# Altium integrated library Linear Technology Comparators.IntLib: 630 symbols (part 8 of 24)
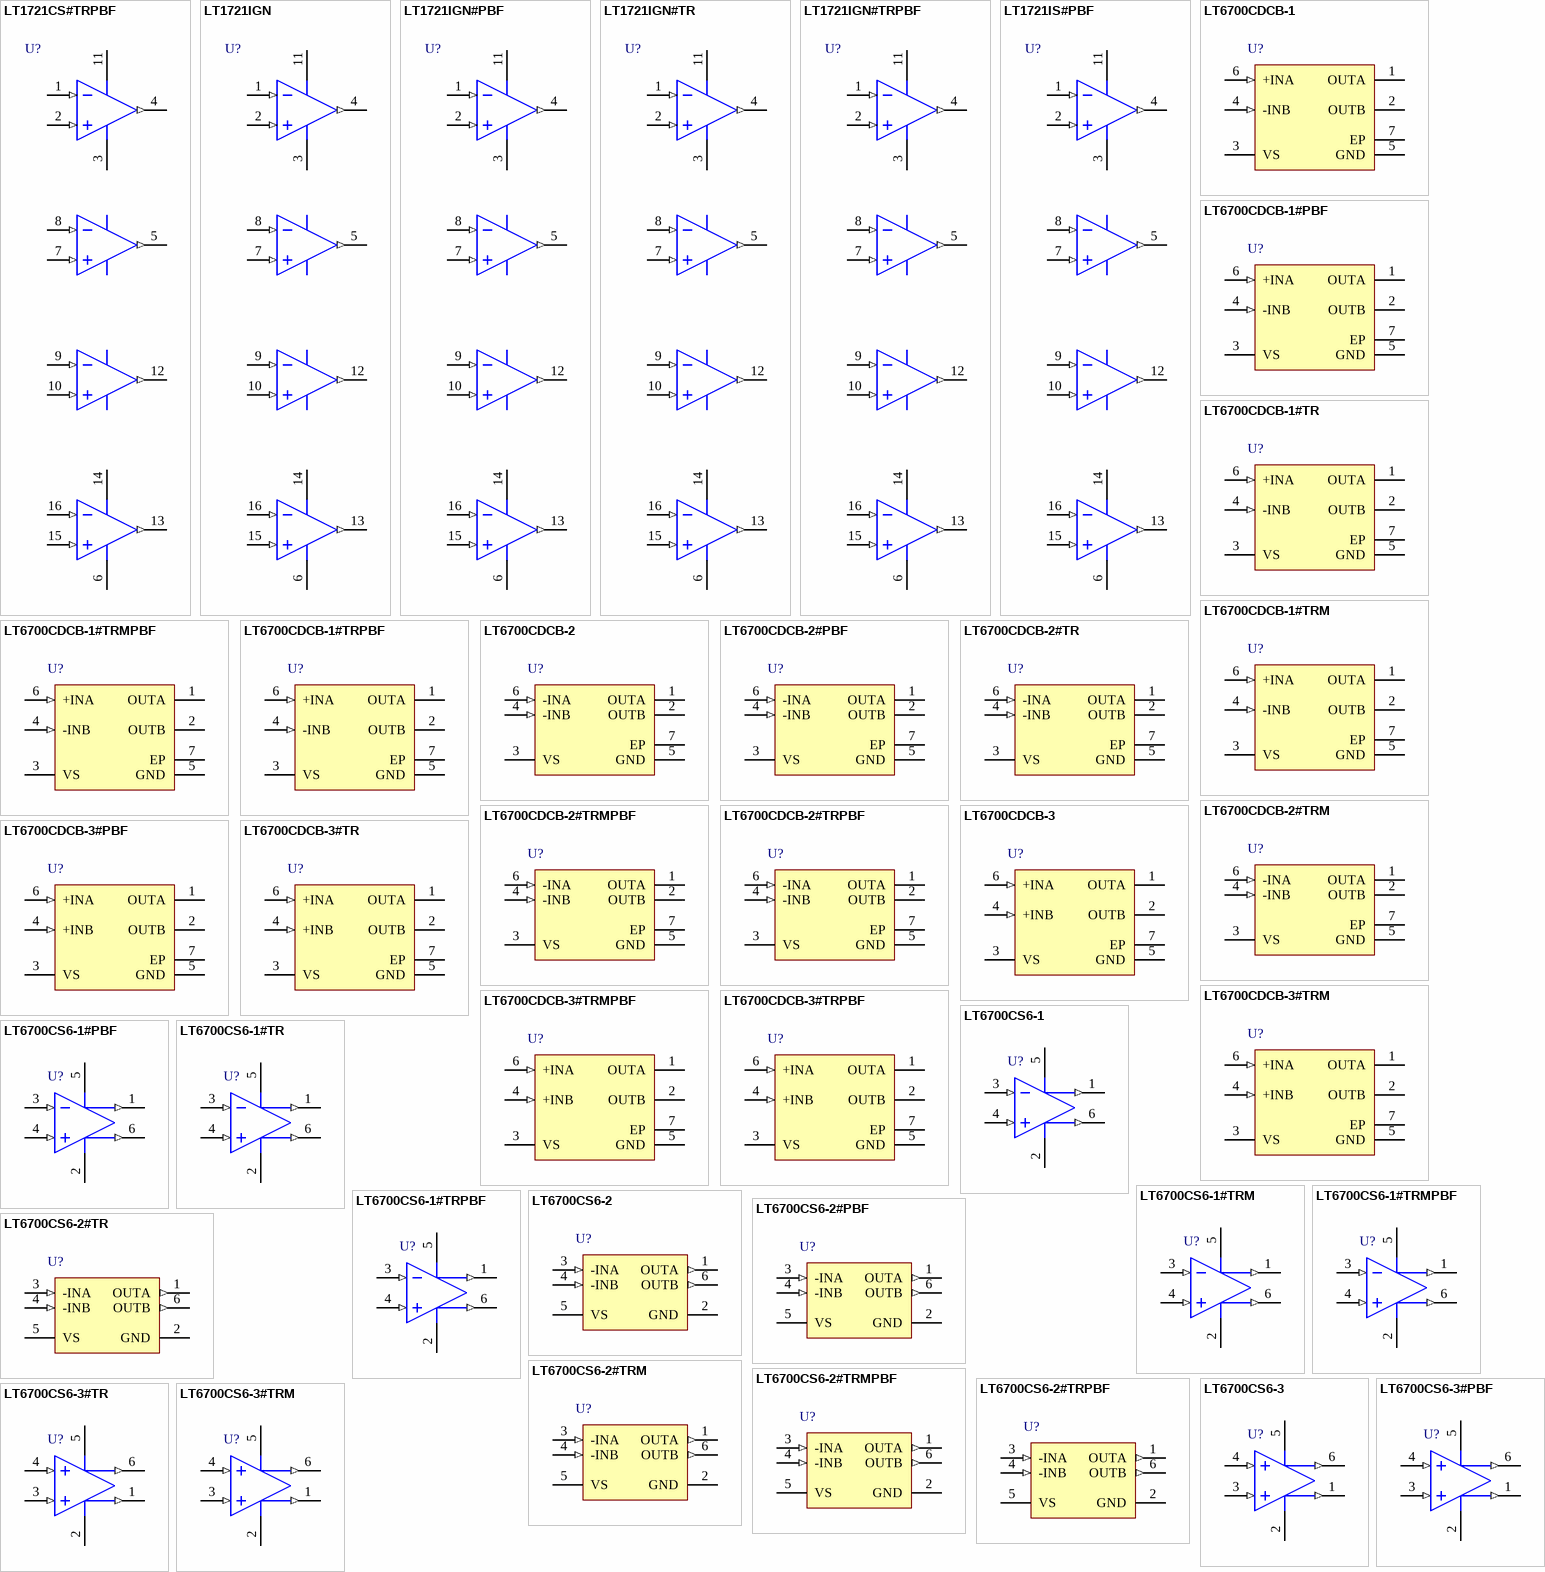
[diagram p31: symbols LT1721CS#TRPBF to LT6700CS6-3#TRM]

## LT6700CDCB-2#TRPBF
designator U?
Micropower, Low Voltage, Comparator with 400 mV Reference, 2 Channels, 1.4 to 18 V, 0 to +70 degC, 6-pin Plastic DFN (DCB6), Tape and Reel; Generic Part Number: LT6700-2; Manufacturer: Linear Technology; PartNumber: LT6700CDCB-2#TRPBF; Channels (#): 2; Prop Delay (us): 18; Supply Current (uA) Guaranteed: 10; Supply Current (uA) Typical: 5.7; Vos (mV) Typical: 6; Vs Min (V): 1.4; DatasheetVersion: Rev G; PackageReference: DCB6; PackageDescription: 6-Pin Plastic DFN, Body 2 × 3 mm, Pitch 1.35 mm; Supplier 1: Digi-Key; Supplier Part Number 1: LT6700CDCB-2#TRPBF-ND; Features: Comparator, Reference, Over-the-Top Inputs; RoHS: Y; Supply Voltage Range: 1.4 to 18 V; Vs Max (V): 18; Mounting Technology: Surface Mount; Code_JEDEC: M0-229; ComponentLink1Description: Manufacturer URL; ComponentLink1URL: http://www.linear.com/; ComponentLink2Description: Datasheet; ComponentLink2URL: http://cds.linear.com/docs/en/datasheet/6700123fg.pdf; ComponentLink3Description: Package Specification; ComponentLink3URL: http://cds.linear.com/docs/en/packaging/(DCB6)%20DFN%2005-08-1715%20Rev%20A.pdf
footprint LT-DCB6_V (SON, 6-Leads, Body 2x3mm, Pitch 0.5mm, Thermal Pad 1.35x1.65mm)
pins: 1 OUTA (oc) "Open-Collector Output of Comparator Section A.This pin provides drive for up to 40mA of load current. Offstate voltage may be as high as 36V for LT6700HV above GND, regardless of VS used.", 2 OUTB (oc) "Open-Collector Output of Comparator Section B.This pin provides drive for up to 40mA of load current. Offstate voltage may be as high as 36V for LT6700HV above GND, regardless of VS used.", 3 VS (power) "Comparator Core Supply Voltage. The parts are characterized for operation with 1.4V =< VS =< 18V with respect to GND.", 4 -INB (in) "External Input for Comparator Section B. The voltage on this pin can range from -0.3V to 36V for LT6700HV withrespecttoGNDregardlessofVSused.TheinputisnoninvertingfortheLT6700-1/LT6700HV-1andLT6700-3/LT6700HV-3, and (See Datasheet)", 5 GND (power) "Ground. This pin is also the low side return of theinternal 400mV reference.", 6 -INA (in) "External Input for Comparator Section A. The voltage on this pin can range from -0.3V to 36V for LT6700HV withrespecttoGNDregardlessofVSused.TheinputisnoninvertingfortheLT6700-1/LT6700HV-1andLT6700-3/LT6700HV-3, and (See Datasheet)", 7 EP (power) "Soldered exposed pad (pin 7)  internally connected to gnd"

## LT6700CDCB-3
designator U?
Micropower, Low Voltage, Comparator with 400 mV Reference, 2 Channels, 1.4 to 18 V, 0 to +70 degC, 6-pin Plastic DFN (DCB6); Generic Part Number: LT6700-3; Manufacturer: Linear Technology; PartNumber: LT6700CDCB-3; Channels (#): 2; Prop Delay (us): 18; Supply Current (uA) Guaranteed: 10; Supply Current (uA) Typical: 5.7; Vos (mV) Typical: 6; Vs Min (V): 1.4; DatasheetVersion: Rev G; PackageReference: DCB6; PackageDescription: 6-Pin Plastic DFN, Body 2 × 3 mm, Pitch 1.35 mm; Features: Comparator, Reference, Over-the-Top Inputs; RoHS: N; Supply Voltage Range: 1.4 to 18 V; Vs Max (V): 18; Mounting Technology: Surface Mount; Code_JEDEC: M0-229; ComponentLink1Description: Manufacturer URL; ComponentLink1URL: http://www.linear.com/; ComponentLink2Description: Datasheet; ComponentLink2URL: http://cds.linear.com/docs/en/datasheet/6700123fg.pdf; ComponentLink3Description: Package Specification; ComponentLink3URL: http://cds.linear.com/docs/en/packaging/(DCB6)%20DFN%2005-08-1715%20Rev%20A.pdf
footprint LT-DCB6_V (SON, 6-Leads, Body 2x3mm, Pitch 0.5mm, Thermal Pad 1.35x1.65mm)
pins: 1 OUTA (oc) "Open-Collector Output of Comparator Section A. This pin provides drive for up to 40mA of load current. Offstate voltage may be as high as 18V above GND, regardless of VS used.", 2 OUTB (oc) "Open-Collector Output of Comparator Section B. This pin provides drive for up to 40mA of load current. Offstate voltage may be as high as 18V above GND, regardless of VS used.", 3 VS (power) "Comparator Core Supply Voltage. The parts are characterized for operation with 1.4V =< VS =< 18V with respect to GND.", 4 +INB (in) "External Input for Comparator Section B. The voltage on this pin can range from -0.3V to 18V with respect to GND regardless of VS used. The input is noninverting. The other section B comparator input is internally connected (See Datasheet)", 5 GND (power) "Ground. This pin is also the low side return of the internal 400mV reference.", 6 +INA (in) "External Input for Comparator Section A. The voltage on this pin can range from -0.3V to 18V with respect to GND regardless of VS used. The input is noninverting. The other section B comparator input is internally connected (See Datasheet)", 7 EP (power)

## LT6700CDCB-3#PBF
designator U?
Micropower, Low Voltage, Comparator with 400 mV Reference, 2 Channels, 1.4 to 18 V, 0 to +70 degC, 6-pin Plastic DFN (DCB6); Generic Part Number: LT6700-3; Manufacturer: Linear Technology; PartNumber: LT6700CDCB-3#PBF; Channels (#): 2; Prop Delay (us): 18; Supply Current (uA) Guaranteed: 10; Supply Current (uA) Typical: 5.7; Vos (mV) Typical: 6; Vs Min (V): 1.4; DatasheetVersion: Rev G; PackageReference: DCB6; PackageDescription: 6-Pin Plastic DFN, Body 2 × 3 mm, Pitch 1.35 mm; Supplier 1: Newark; Supplier Part Number 1: 78T4278; Features: Comparator, Reference, Over-the-Top Inputs; RoHS: Y; Supply Voltage Range: 1.4 to 18 V; Vs Max (V): 18; Mounting Technology: Surface Mount; Code_JEDEC: M0-229; ComponentLink1Description: Manufacturer URL; ComponentLink1URL: http://www.linear.com/; ComponentLink2Description: Datasheet; ComponentLink2URL: http://cds.linear.com/docs/en/datasheet/6700123fg.pdf; ComponentLink3Description: Package Specification; ComponentLink3URL: http://cds.linear.com/docs/en/packaging/(DCB6)%20DFN%2005-08-1715%20Rev%20A.pdf
footprint LT-DCB6_V (SON, 6-Leads, Body 2x3mm, Pitch 0.5mm, Thermal Pad 1.35x1.65mm)
pins: 1 OUTA (oc) "Open-Collector Output of Comparator Section A. This pin provides drive for up to 40mA of load current. Offstate voltage may be as high as 18V above GND, regardless of VS used.", 2 OUTB (oc) "Open-Collector Output of Comparator Section B. This pin provides drive for up to 40mA of load current. Offstate voltage may be as high as 18V above GND, regardless of VS used.", 3 VS (power) "Comparator Core Supply Voltage. The parts are characterized for operation with 1.4V =< VS =< 18V with respect to GND.", 4 +INB (in) "External Input for Comparator Section B. The voltage on this pin can range from -0.3V to 18V with respect to GND regardless of VS used. The input is noninverting. The other section B comparator input is internally connected (See Datasheet)", 5 GND (power) "Ground. This pin is also the low side return of the internal 400mV reference.", 6 +INA (in) "External Input for Comparator Section A. The voltage on this pin can range from -0.3V to 18V with respect to GND regardless of VS used. The input is noninverting. The other section B comparator input is internally connected (See Datasheet)", 7 EP (power)

## LT6700CDCB-3#TR
designator U?
Micropower, Low Voltage, Comparator with 400 mV Reference, 2 Channels, 1.4 to 18 V, 0 to +70 degC, 6-pin Plastic DFN (DCB6), Tape and Reel; Generic Part Number: LT6700-3; Manufacturer: Linear Technology; PartNumber: LT6700CDCB-3#TR; Channels (#): 2; Prop Delay (us): 18; Supply Current (uA) Guaranteed: 10; Supply Current (uA) Typical: 5.7; Vos (mV) Typical: 6; Vs Min (V): 1.4; DatasheetVersion: Rev G; PackageReference: DCB6; PackageDescription: 6-Pin Plastic DFN, Body 2 × 3 mm, Pitch 1.35 mm; Features: Comparator, Reference, Over-the-Top Inputs; RoHS: N; Supply Voltage Range: 1.4 to 18 V; Vs Max (V): 18; Mounting Technology: Surface Mount; Code_JEDEC: M0-229; ComponentLink1Description: Manufacturer URL; ComponentLink1URL: http://www.linear.com/; ComponentLink2Description: Datasheet; ComponentLink2URL: http://cds.linear.com/docs/en/datasheet/6700123fg.pdf; ComponentLink3Description: Package Specification; ComponentLink3URL: http://cds.linear.com/docs/en/packaging/(DCB6)%20DFN%2005-08-1715%20Rev%20A.pdf
footprint LT-DCB6_V (SON, 6-Leads, Body 2x3mm, Pitch 0.5mm, Thermal Pad 1.35x1.65mm)
pins: 1 OUTA (oc) "Open-Collector Output of Comparator Section A. This pin provides drive for up to 40mA of load current. Offstate voltage may be as high as 18V above GND, regardless of VS used.", 2 OUTB (oc) "Open-Collector Output of Comparator Section B. This pin provides drive for up to 40mA of load current. Offstate voltage may be as high as 18V above GND, regardless of VS used.", 3 VS (power) "Comparator Core Supply Voltage. The parts are characterized for operation with 1.4V =< VS =< 18V with respect to GND.", 4 +INB (in) "External Input for Comparator Section B. The voltage on this pin can range from -0.3V to 18V with respect to GND regardless of VS used. The input is noninverting. The other section B comparator input is internally connected (See Datasheet)", 5 GND (power) "Ground. This pin is also the low side return of the internal 400mV reference.", 6 +INA (in) "External Input for Comparator Section A. The voltage on this pin can range from -0.3V to 18V with respect to GND regardless of VS used. The input is noninverting. The other section B comparator input is internally connected (See Datasheet)", 7 EP (power)

## LT6700CDCB-3#TRM
designator U?
Micropower, Low Voltage, Comparator with 400 mV Reference, 2 Channels, 1.4 to 18 V, 0 to +70 degC, 6-pin Plastic DFN (DCB6), Mini Tape and Reel; Generic Part Number: LT6700-3; Manufacturer: Linear Technology; PartNumber: LT6700CDCB-3#TRM; Channels (#): 2; Prop Delay (us): 18; Supply Current (uA) Guaranteed: 10; Supply Current (uA) Typical: 5.7; Vos (mV) Typical: 6; Vs Min (V): 1.4; DatasheetVersion: Rev G; PackageReference: DCB6; PackageDescription: 6-Pin Plastic DFN, Body 2 × 3 mm, Pitch 1.35 mm; Features: Comparator, Reference, Over-the-Top Inputs; RoHS: N; Supply Voltage Range: 1.4 to 18 V; Vs Max (V): 18; Mounting Technology: Surface Mount; Code_JEDEC: M0-229; ComponentLink1Description: Manufacturer URL; ComponentLink1URL: http://www.linear.com/; ComponentLink2Description: Datasheet; ComponentLink2URL: http://cds.linear.com/docs/en/datasheet/6700123fg.pdf; ComponentLink3Description: Package Specification; ComponentLink3URL: http://cds.linear.com/docs/en/packaging/(DCB6)%20DFN%2005-08-1715%20Rev%20A.pdf
footprint LT-DCB6_V (SON, 6-Leads, Body 2x3mm, Pitch 0.5mm, Thermal Pad 1.35x1.65mm)
pins: 1 OUTA (oc) "Open-Collector Output of Comparator Section A. This pin provides drive for up to 40mA of load current. Offstate voltage may be as high as 18V above GND, regardless of VS used.", 2 OUTB (oc) "Open-Collector Output of Comparator Section B. This pin provides drive for up to 40mA of load current. Offstate voltage may be as high as 18V above GND, regardless of VS used.", 3 VS (power) "Comparator Core Supply Voltage. The parts are characterized for operation with 1.4V =< VS =< 18V with respect to GND.", 4 +INB (in) "External Input for Comparator Section B. The voltage on this pin can range from -0.3V to 18V with respect to GND regardless of VS used. The input is noninverting. The other section B comparator input is internally connected (See Datasheet)", 5 GND (power) "Ground. This pin is also the low side return of the internal 400mV reference.", 6 +INA (in) "External Input for Comparator Section A. The voltage on this pin can range from -0.3V to 18V with respect to GND regardless of VS used. The input is noninverting. The other section B comparator input is internally connected (See Datasheet)", 7 EP (power)

## LT6700CDCB-3#TRMPBF
designator U?
Micropower, Low Voltage, Comparator with 400 mV Reference, 2 Channels, 1.4 to 18 V, 0 to +70 degC, 6-pin Plastic DFN (DCB6), Mini Tape and Reel; Generic Part Number: LT6700-3; Manufacturer: Linear Technology; PartNumber: LT6700CDCB-3#TRMPBF; Channels (#): 2; Prop Delay (us): 18; Supply Current (uA) Guaranteed: 10; Supply Current (uA) Typical: 5.7; Vos (mV) Typical: 6; Vs Min (V): 1.4; DatasheetVersion: Rev G; PackageReference: DCB6; PackageDescription: 6-Pin Plastic DFN, Body 2 × 3 mm, Pitch 1.35 mm; Supplier 1: Digi-Key; Supplier Part Number 1: LT6700CDCB-3#TRMPBF-ND; Supplier 2: Newark; Supplier Part Number 2: 57M9667; Features: Comparator, Reference, Over-the-Top Inputs; RoHS: Y; Supply Voltage Range: 1.4 to 18 V; Vs Max (V): 18; Mounting Technology: Surface Mount; Code_JEDEC: M0-229; ComponentLink1Description: Manufacturer URL; ComponentLink1URL: http://www.linear.com/; ComponentLink2Description: Datasheet; ComponentLink2URL: http://cds.linear.com/docs/en/datasheet/6700123fg.pdf; ComponentLink3Description: Package Specification; ComponentLink3URL: http://cds.linear.com/docs/en/packaging/(DCB6)%20DFN%2005-08-1715%20Rev%20A.pdf
footprint LT-DCB6_V (SON, 6-Leads, Body 2x3mm, Pitch 0.5mm, Thermal Pad 1.35x1.65mm)
pins: 1 OUTA (oc) "Open-Collector Output of Comparator Section A. This pin provides drive for up to 40mA of load current. Offstate voltage may be as high as 18V above GND, regardless of VS used.", 2 OUTB (oc) "Open-Collector Output of Comparator Section B. This pin provides drive for up to 40mA of load current. Offstate voltage may be as high as 18V above GND, regardless of VS used.", 3 VS (power) "Comparator Core Supply Voltage. The parts are characterized for operation with 1.4V =< VS =< 18V with respect to GND.", 4 +INB (in) "External Input for Comparator Section B. The voltage on this pin can range from -0.3V to 18V with respect to GND regardless of VS used. The input is noninverting. The other section B comparator input is internally connected (See Datasheet)", 5 GND (power) "Ground. This pin is also the low side return of the internal 400mV reference.", 6 +INA (in) "External Input for Comparator Section A. The voltage on this pin can range from -0.3V to 18V with respect to GND regardless of VS used. The input is noninverting. The other section B comparator input is internally connected (See Datasheet)", 7 EP (power)

## LT6700CDCB-3#TRPBF
designator U?
Micropower, Low Voltage, Comparator with 400 mV Reference, 2 Channels, 1.4 to 18 V, 0 to +70 degC, 6-pin Plastic DFN (DCB6), Tape and Reel; Generic Part Number: LT6700-3; Manufacturer: Linear Technology; PartNumber: LT6700CDCB-3#TRPBF; Channels (#): 2; Prop Delay (us): 18; Supply Current (uA) Guaranteed: 10; Supply Current (uA) Typical: 5.7; Vos (mV) Typical: 6; Vs Min (V): 1.4; DatasheetVersion: Rev G; PackageReference: DCB6; PackageDescription: 6-Pin Plastic DFN, Body 2 × 3 mm, Pitch 1.35 mm; Supplier 1: Digi-Key; Supplier Part Number 1: LT6700CDCB-3#TRPBF-ND; Features: Comparator, Reference, Over-the-Top Inputs; RoHS: Y; Supply Voltage Range: 1.4 to 18 V; Vs Max (V): 18; Mounting Technology: Surface Mount; Code_JEDEC: M0-229; ComponentLink1Description: Manufacturer URL; ComponentLink1URL: http://www.linear.com/; ComponentLink2Description: Datasheet; ComponentLink2URL: http://cds.linear.com/docs/en/datasheet/6700123fg.pdf; ComponentLink3Description: Package Specification; ComponentLink3URL: http://cds.linear.com/docs/en/packaging/(DCB6)%20DFN%2005-08-1715%20Rev%20A.pdf
footprint LT-DCB6_V (SON, 6-Leads, Body 2x3mm, Pitch 0.5mm, Thermal Pad 1.35x1.65mm)
pins: 1 OUTA (oc) "Open-Collector Output of Comparator Section A. This pin provides drive for up to 40mA of load current. Offstate voltage may be as high as 18V above GND, regardless of VS used.", 2 OUTB (oc) "Open-Collector Output of Comparator Section B. This pin provides drive for up to 40mA of load current. Offstate voltage may be as high as 18V above GND, regardless of VS used.", 3 VS (power) "Comparator Core Supply Voltage. The parts are characterized for operation with 1.4V =< VS =< 18V with respect to GND.", 4 +INB (in) "External Input for Comparator Section B. The voltage on this pin can range from -0.3V to 18V with respect to GND regardless of VS used. The input is noninverting. The other section B comparator input is internally connected (See Datasheet)", 5 GND (power) "Ground. This pin is also the low side return of the internal 400mV reference.", 6 +INA (in) "External Input for Comparator Section A. The voltage on this pin can range from -0.3V to 18V with respect to GND regardless of VS used. The input is noninverting. The other section B comparator input is internally connected (See Datasheet)", 7 EP (power)

## LT6700CS6-1
designator U?
Micropower, Low Voltage, Comparator with 400 mV Reference, 2 Channels, 1.4 to 18 V, 0 to +70 degC, 6-pin Plastic TSOT-23 (S6); Generic Part Number: LT6700-1; Manufacturer: Linear Technology; PartNumber: LT6700CS6-1; Channels (#): 2; Prop Delay (us): 18; Supply Current (uA) Guaranteed: 10; Supply Current (uA) Typical: 5.7; Vos (mV) Typical: 6; Vs Min (V): 1.4; DatasheetVersion: Rev G; PackageReference: S6; PackageDescription: 6-Pin Plastic TSOT-23, Body 2.9 x 1.63 mm, Pitch 0.95 mm; Features: Comparator, Window Comparator, Reference, Over-the-Top Inputs; RoHS: N; Supply Voltage Range: 1.4 to 18 V; Vs Max (V): 18; Mounting Technology: Surface Mount; Code_JEDEC: MO-193; ComponentLink1Description: Manufacturer URL; ComponentLink1URL: http://www.linear.com/; ComponentLink2Description: Datasheet; ComponentLink2URL: http://cds.linear.com/docs/en/datasheet/6700123fg.pdf; ComponentLink3Description: Package Specification; ComponentLink3URL: http://cds.linear.com/docs/en/packaging/SOT_6_05-08-1636.pdf
footprint LT-S6_N (SOT23, 6-Leads, Body 2.9x1.63mm, Pitch 0.95mm, IPC Medium Density)
footprint LT-S6_L (SOT23, 6-Leads, Body 2.9x1.63mm, Pitch 0.95mm, IPC High Density)
footprint LT-S6_M (SOT23, 6-Leads, Body 2.9x1.63mm, Pitch 0.95mm, IPC Low Density)
pins: 1 OUTA (out), 2 GND (power), 3 +INA (in), 4 -INB (in), 5 VS (power), 6 OUTB (out)

## LT6700CS6-1#PBF
designator U?
Micropower, Low Voltage, Comparator with 400 mV Reference, 2 Channels, 1.4 to 18 V, 0 to +70 degC, 6-pin Plastic TSOT-23 (S6); Generic Part Number: LT6700-1; Manufacturer: Linear Technology; PartNumber: LT6700CS6-1#PBF; Channels (#): 2; Prop Delay (us): 18; Supply Current (uA) Guaranteed: 10; Supply Current (uA) Typical: 5.7; Vos (mV) Typical: 6; Vs Min (V): 1.4; DatasheetVersion: Rev G; PackageReference: S6; PackageDescription: 6-Pin Plastic TSOT-23, Body 2.9 x 1.63 mm, Pitch 0.95 mm; Supplier 1: Farnell; Supplier Part Number 1: 2115818; Supplier 2: Newark; Supplier Part Number 2: 61M3379; Features: Comparator, Window Comparator, Reference, Over-the-Top Inputs; RoHS: Y; Supply Voltage Range: 1.4 to 18 V; Vs Max (V): 18; Mounting Technology: Surface Mount; Code_JEDEC: MO-193; ComponentLink1Description: Manufacturer URL; ComponentLink1URL: http://www.linear.com/; ComponentLink2Description: Datasheet; ComponentLink2URL: http://cds.linear.com/docs/en/datasheet/6700123fg.pdf; ComponentLink3Description: Package Specification; ComponentLink3URL: http://cds.linear.com/docs/en/packaging/SOT_6_05-08-1636.pdf
footprint LT-S6_N (SOT23, 6-Leads, Body 2.9x1.63mm, Pitch 0.95mm, IPC Medium Density)
footprint LT-S6_L (SOT23, 6-Leads, Body 2.9x1.63mm, Pitch 0.95mm, IPC High Density)
footprint LT-S6_M (SOT23, 6-Leads, Body 2.9x1.63mm, Pitch 0.95mm, IPC Low Density)
pins: 1 OUTA (out), 2 GND (power), 3 +INA (in), 4 -INB (in), 5 VS (power), 6 OUTB (out)

## LT6700CS6-1#TR
designator U?
Micropower, Low Voltage, Comparator with 400 mV Reference, 2 Channels, 1.4 to 18 V, 0 to +70 degC, 6-pin Plastic TSOT-23 (S6), Tape and Reel; Generic Part Number: LT6700-1; Manufacturer: Linear Technology; PartNumber: LT6700CS6-1#TR; Channels (#): 2; Prop Delay (us): 18; Supply Current (uA) Guaranteed: 10; Supply Current (uA) Typical: 5.7; Vos (mV) Typical: 6; Vs Min (V): 1.4; DatasheetVersion: Rev G; PackageReference: S6; PackageDescription: 6-Pin Plastic TSOT-23, Body 2.9 x 1.63 mm, Pitch 0.95 mm; Supplier 1: Digi-Key; Supplier Part Number 1: LT6700CS6-1#TR-ND; Features: Comparator, Window Comparator, Reference, Over-the-Top Inputs; RoHS: N; Supply Voltage Range: 1.4 to 18 V; Vs Max (V): 18; Mounting Technology: Surface Mount; Code_JEDEC: MO-193; ComponentLink1Description: Manufacturer URL; ComponentLink1URL: http://www.linear.com/; ComponentLink2Description: Datasheet; ComponentLink2URL: http://cds.linear.com/docs/en/datasheet/6700123fg.pdf; ComponentLink3Description: Package Specification; ComponentLink3URL: http://cds.linear.com/docs/en/packaging/SOT_6_05-08-1636.pdf
footprint LT-S6_N (SOT23, 6-Leads, Body 2.9x1.63mm, Pitch 0.95mm, IPC Medium Density)
footprint LT-S6_L (SOT23, 6-Leads, Body 2.9x1.63mm, Pitch 0.95mm, IPC High Density)
footprint LT-S6_M (SOT23, 6-Leads, Body 2.9x1.63mm, Pitch 0.95mm, IPC Low Density)
pins: 1 OUTA (out), 2 GND (power), 3 +INA (in), 4 -INB (in), 5 VS (power), 6 OUTB (out)

## LT6700CS6-1#TRM
designator U?
Micropower, Low Voltage, Comparator with 400 mV Reference, 2 Channels, 1.4 to 18 V, 0 to +70 degC, 6-pin Plastic TSOT-23 (S6), Mini Tape and Reel; Generic Part Number: LT6700-1; Manufacturer: Linear Technology; PartNumber: LT6700CS6-1#TRM; Channels (#): 2; Prop Delay (us): 18; Supply Current (uA) Guaranteed: 10; Supply Current (uA) Typical: 5.7; Vos (mV) Typical: 6; Vs Min (V): 1.4; DatasheetVersion: Rev G; PackageReference: S6; PackageDescription: 6-Pin Plastic TSOT-23, Body 2.9 x 1.63 mm, Pitch 0.95 mm; Supplier 1: Digi-Key; Supplier Part Number 1: LT6700CS6-1#TRMTR-ND; Supplier 2: Digi-Key; Supplier Part Number 2: LT6700CS6-1#TRMCT-ND; Features: Comparator, Window Comparator, Reference, Over-the-Top Inputs; RoHS: N; Supply Voltage Range: 1.4 to 18 V; Vs Max (V): 18; Mounting Technology: Surface Mount; Code_JEDEC: MO-193; ComponentLink1Description: Manufacturer URL; ComponentLink1URL: http://www.linear.com/; ComponentLink2Description: Datasheet; ComponentLink2URL: http://cds.linear.com/docs/en/datasheet/6700123fg.pdf; ComponentLink3Description: Package Specification; ComponentLink3URL: http://cds.linear.com/docs/en/packaging/SOT_6_05-08-1636.pdf
footprint LT-S6_N (SOT23, 6-Leads, Body 2.9x1.63mm, Pitch 0.95mm, IPC Medium Density)
footprint LT-S6_L (SOT23, 6-Leads, Body 2.9x1.63mm, Pitch 0.95mm, IPC High Density)
footprint LT-S6_M (SOT23, 6-Leads, Body 2.9x1.63mm, Pitch 0.95mm, IPC Low Density)
pins: 1 OUTA (out), 2 GND (power), 3 +INA (in), 4 -INB (in), 5 VS (power), 6 OUTB (out)

## LT6700CS6-1#TRMPBF
designator U?
Micropower, Low Voltage, Comparator with 400 mV Reference, 2 Channels, 1.4 to 18 V, 0 to +70 degC, 6-pin Plastic TSOT-23 (S6), Mini Tape and Reel; Generic Part Number: LT6700-1; Manufacturer: Linear Technology; PartNumber: LT6700CS6-1#TRMPBF; Channels (#): 2; Prop Delay (us): 18; Supply Current (uA) Guaranteed: 10; Supply Current (uA) Typical: 5.7; Vos (mV) Typical: 6; Vs Min (V): 1.4; DatasheetVersion: Rev G; PackageReference: S6; PackageDescription: 6-Pin Plastic TSOT-23, Body 2.9 x 1.63 mm, Pitch 0.95 mm; Supplier 1: Digi-Key; Supplier Part Number 1: LT6700CS6-1#TRMPBFTR-ND; Supplier 2: Digi-Key; Supplier Part Number 2: LT6700CS6-1#TRMPBFCT-ND; Supplier 3: Digi-Key; Supplier Part Number 3: LT6700CS6-1#TRMPBFDKR-ND; Supplier 4: Farnell; Supplier Part Number 4: 1663849; Supplier 5: Farnell; Supplier Part Number 5: 1663849RL; Supplier 6: Newark; Supplier Part Number 6: 57M9671; Features: Comparator, Window Comparator, Reference, Over-the-Top Inputs; RoHS: Y; Supply Voltage Range: 1.4 to 18 V; Vs Max (V): 18; Mounting Technology: Surface Mount; Code_JEDEC: MO-193; ComponentLink1Description: Manufacturer URL; ComponentLink1URL: http://www.linear.com/; ComponentLink2Description: Datasheet; ComponentLink2URL: http://cds.linear.com/docs/en/datasheet/6700123fg.pdf; ComponentLink3Description: Package Specification; ComponentLink3URL: http://cds.linear.com/docs/en/packaging/SOT_6_05-08-1636.pdf
footprint LT-S6_N (SOT23, 6-Leads, Body 2.9x1.63mm, Pitch 0.95mm, IPC Medium Density)
footprint LT-S6_L (SOT23, 6-Leads, Body 2.9x1.63mm, Pitch 0.95mm, IPC High Density)
footprint LT-S6_M (SOT23, 6-Leads, Body 2.9x1.63mm, Pitch 0.95mm, IPC Low Density)
pins: 1 OUTA (out), 2 GND (power), 3 +INA (in), 4 -INB (in), 5 VS (power), 6 OUTB (out)

## LT6700CS6-1#TRPBF
designator U?
Micropower, Low Voltage, Comparator with 400 mV Reference, 2 Channels, 1.4 to 18 V, 0 to +70 degC, 6-pin Plastic TSOT-23 (S6), Tape and Reel; Generic Part Number: LT6700-1; Manufacturer: Linear Technology; PartNumber: LT6700CS6-1#TRPBF; Channels (#): 2; Prop Delay (us): 18; Supply Current (uA) Guaranteed: 10; Supply Current (uA) Typical: 5.7; Vos (mV) Typical: 6; Vs Min (V): 1.4; DatasheetVersion: Rev G; PackageReference: S6; PackageDescription: 6-Pin Plastic TSOT-23, Body 2.9 x 1.63 mm, Pitch 0.95 mm; Supplier 1: Digi-Key; Supplier Part Number 1: LT6700CS6-1#TRPBF-ND; Supplier 2: Newark; Supplier Part Number 2: 57M9672; Features: Comparator, Window Comparator, Reference, Over-the-Top Inputs; RoHS: Y; Supply Voltage Range: 1.4 to 18 V; Vs Max (V): 18; Mounting Technology: Surface Mount; Code_JEDEC: MO-193; ComponentLink1Description: Manufacturer URL; ComponentLink1URL: http://www.linear.com/; ComponentLink2Description: Datasheet; ComponentLink2URL: http://cds.linear.com/docs/en/datasheet/6700123fg.pdf; ComponentLink3Description: Package Specification; ComponentLink3URL: http://cds.linear.com/docs/en/packaging/SOT_6_05-08-1636.pdf
footprint LT-S6_N (SOT23, 6-Leads, Body 2.9x1.63mm, Pitch 0.95mm, IPC Medium Density)
footprint LT-S6_L (SOT23, 6-Leads, Body 2.9x1.63mm, Pitch 0.95mm, IPC High Density)
footprint LT-S6_M (SOT23, 6-Leads, Body 2.9x1.63mm, Pitch 0.95mm, IPC Low Density)
pins: 1 OUTA (out), 2 GND (power), 3 +INA (in), 4 -INB (in), 5 VS (power), 6 OUTB (out)

## LT6700CS6-2
designator U?
Micropower, Low Voltage, Comparator with 400 mV Reference, 2 Channels, 1.4 to 18 V, 0 to +70 degC, 6-pin Plastic TSOT-23 (S6); Generic Part Number: LT6700-2; Manufacturer: Linear Technology; PartNumber: LT6700CS6-2; Channels (#): 2; Prop Delay (us): 18; Supply Current (uA) Guaranteed: 10; Supply Current (uA) Typical: 5.7; Vos (mV) Typical: 6; Vs Min (V): 1.4; DatasheetVersion: Rev G; PackageReference: S6; PackageDescription: 6-Pin Plastic TSOT-23, Body 2.9 x 1.63 mm, Pitch 0.95 mm; Features: Comparator, Reference, Over-the-Top Inputs; RoHS: N; Supply Voltage Range: 1.4 to 18 V; Vs Max (V): 18; Mounting Technology: Surface Mount; Code_JEDEC: MO-193; ComponentLink1Description: Manufacturer URL; ComponentLink1URL: http://www.linear.com/; ComponentLink2Description: Datasheet; ComponentLink2URL: http://cds.linear.com/docs/en/datasheet/6700123fg.pdf; ComponentLink3Description: Package Specification; ComponentLink3URL: http://cds.linear.com/docs/en/packaging/SOT_6_05-08-1636.pdf
footprint LT-S6_N (SOT23, 6-Leads, Body 2.9x1.63mm, Pitch 0.95mm, IPC Medium Density)
footprint LT-S6_L (SOT23, 6-Leads, Body 2.9x1.63mm, Pitch 0.95mm, IPC High Density)
footprint LT-S6_M (SOT23, 6-Leads, Body 2.9x1.63mm, Pitch 0.95mm, IPC Low Density)
pins: 1 OUTA (out), 2 GND (power), 3 -INA (in), 4 -INB (in), 5 VS (power), 6 OUTB (out)

## LT6700CS6-2#PBF
designator U?
Micropower, Low Voltage, Comparator with 400 mV Reference, 2 Channels, 1.4 to 18 V, 0 to +70 degC, 6-pin Plastic TSOT-23 (S6); Generic Part Number: LT6700-2; Manufacturer: Linear Technology; PartNumber: LT6700CS6-2#PBF; Channels (#): 2; Prop Delay (us): 18; Supply Current (uA) Guaranteed: 10; Supply Current (uA) Typical: 5.7; Vos (mV) Typical: 6; Vs Min (V): 1.4; DatasheetVersion: Rev G; PackageReference: S6; PackageDescription: 6-Pin Plastic TSOT-23, Body 2.9 x 1.63 mm, Pitch 0.95 mm; Supplier 1: Farnell; Supplier Part Number 1: 2308234; Supplier 2: Newark; Supplier Part Number 2: 78T4279; Features: Comparator, Reference, Over-the-Top Inputs; RoHS: Y; Supply Voltage Range: 1.4 to 18 V; Vs Max (V): 18; Mounting Technology: Surface Mount; Code_JEDEC: MO-193; ComponentLink1Description: Manufacturer URL; ComponentLink1URL: http://www.linear.com/; ComponentLink2Description: Datasheet; ComponentLink2URL: http://cds.linear.com/docs/en/datasheet/6700123fg.pdf; ComponentLink3Description: Package Specification; ComponentLink3URL: http://cds.linear.com/docs/en/packaging/SOT_6_05-08-1636.pdf
footprint LT-S6_N (SOT23, 6-Leads, Body 2.9x1.63mm, Pitch 0.95mm, IPC Medium Density)
footprint LT-S6_L (SOT23, 6-Leads, Body 2.9x1.63mm, Pitch 0.95mm, IPC High Density)
footprint LT-S6_M (SOT23, 6-Leads, Body 2.9x1.63mm, Pitch 0.95mm, IPC Low Density)
pins: 1 OUTA (out), 2 GND (power), 3 -INA (in), 4 -INB (in), 5 VS (power), 6 OUTB (out)

## LT6700CS6-2#TR
designator U?
Micropower, Low Voltage, Comparator with 400 mV Reference, 2 Channels, 1.4 to 18 V, 0 to +70 degC, 6-pin Plastic TSOT-23 (S6), Tape and Reel; Generic Part Number: LT6700-2; Manufacturer: Linear Technology; PartNumber: LT6700CS6-2#TR; Channels (#): 2; Prop Delay (us): 18; Supply Current (uA) Guaranteed: 10; Supply Current (uA) Typical: 5.7; Vos (mV) Typical: 6; Vs Min (V): 1.4; DatasheetVersion: Rev G; PackageReference: S6; PackageDescription: 6-Pin Plastic TSOT-23, Body 2.9 x 1.63 mm, Pitch 0.95 mm; Supplier 1: Digi-Key; Supplier Part Number 1: LT6700CS6-2#TR-ND; Features: Comparator, Reference, Over-the-Top Inputs; RoHS: N; Supply Voltage Range: 1.4 to 18 V; Vs Max (V): 18; Mounting Technology: Surface Mount; Code_JEDEC: MO-193; ComponentLink1Description: Manufacturer URL; ComponentLink1URL: http://www.linear.com/; ComponentLink2Description: Datasheet; ComponentLink2URL: http://cds.linear.com/docs/en/datasheet/6700123fg.pdf; ComponentLink3Description: Package Specification; ComponentLink3URL: http://cds.linear.com/docs/en/packaging/SOT_6_05-08-1636.pdf
footprint LT-S6_N (SOT23, 6-Leads, Body 2.9x1.63mm, Pitch 0.95mm, IPC Medium Density)
footprint LT-S6_L (SOT23, 6-Leads, Body 2.9x1.63mm, Pitch 0.95mm, IPC High Density)
footprint LT-S6_M (SOT23, 6-Leads, Body 2.9x1.63mm, Pitch 0.95mm, IPC Low Density)
pins: 1 OUTA (out), 2 GND (power), 3 -INA (in), 4 -INB (in), 5 VS (power), 6 OUTB (out)

## LT6700CS6-2#TRM
designator U?
Micropower, Low Voltage, Comparator with 400 mV Reference, 2 Channels, 1.4 to 18 V, 0 to +70 degC, 6-pin Plastic TSOT-23 (S6), Mini Tape and Reel; Generic Part Number: LT6700-2; Manufacturer: Linear Technology; PartNumber: LT6700CS6-2#TRM; Channels (#): 2; Prop Delay (us): 18; Supply Current (uA) Guaranteed: 10; Supply Current (uA) Typical: 5.7; Vos (mV) Typical: 6; Vs Min (V): 1.4; DatasheetVersion: Rev G; PackageReference: S6; PackageDescription: 6-Pin Plastic TSOT-23, Body 2.9 x 1.63 mm, Pitch 0.95 mm; Supplier 1: Digi-Key; Supplier Part Number 1: LT6700CS6-2#TRMTR-ND; Supplier 2: Digi-Key; Supplier Part Number 2: LT6700CS6-2#TRMCT-ND; Features: Comparator, Reference, Over-the-Top Inputs; RoHS: N; Supply Voltage Range: 1.4 to 18 V; Vs Max (V): 18; Mounting Technology: Surface Mount; Code_JEDEC: MO-193; ComponentLink1Description: Manufacturer URL; ComponentLink1URL: http://www.linear.com/; ComponentLink2Description: Datasheet; ComponentLink2URL: http://cds.linear.com/docs/en/datasheet/6700123fg.pdf; ComponentLink3Description: Package Specification; ComponentLink3URL: http://cds.linear.com/docs/en/packaging/SOT_6_05-08-1636.pdf
footprint LT-S6_N (SOT23, 6-Leads, Body 2.9x1.63mm, Pitch 0.95mm, IPC Medium Density)
footprint LT-S6_L (SOT23, 6-Leads, Body 2.9x1.63mm, Pitch 0.95mm, IPC High Density)
footprint LT-S6_M (SOT23, 6-Leads, Body 2.9x1.63mm, Pitch 0.95mm, IPC Low Density)
pins: 1 OUTA (out), 2 GND (power), 3 -INA (in), 4 -INB (in), 5 VS (power), 6 OUTB (out)

## LT6700CS6-2#TRMPBF
designator U?
Micropower, Low Voltage, Comparator with 400 mV Reference, 2 Channels, 1.4 to 18 V, 0 to +70 degC, 6-pin Plastic TSOT-23 (S6), Mini Tape and Reel; Generic Part Number: LT6700-2; Manufacturer: Linear Technology; PartNumber: LT6700CS6-2#TRMPBF; Channels (#): 2; Prop Delay (us): 18; Supply Current (uA) Guaranteed: 10; Supply Current (uA) Typical: 5.7; Vos (mV) Typical: 6; Vs Min (V): 1.4; DatasheetVersion: Rev G; PackageReference: S6; PackageDescription: 6-Pin Plastic TSOT-23, Body 2.9 x 1.63 mm, Pitch 0.95 mm; Supplier 1: Digi-Key; Supplier Part Number 1: LT6700CS6-2#TRMPBFTR-ND; Supplier 2: Digi-Key; Supplier Part Number 2: LT6700CS6-2#TRMPBFCT-ND; Supplier 3: Digi-Key; Supplier Part Number 3: LT6700CS6-2#TRMPBFDKR-ND; Supplier 4: Farnell; Supplier Part Number 4: 1663850; Supplier 5: Newark; Supplier Part Number 5: 57M9675; Features: Comparator, Reference, Over-the-Top Inputs; RoHS: Y; Supply Voltage Range: 1.4 to 18 V; Vs Max (V): 18; Mounting Technology: Surface Mount; Code_JEDEC: MO-193; ComponentLink1Description: Manufacturer URL; ComponentLink1URL: http://www.linear.com/; ComponentLink2Description: Datasheet; ComponentLink2URL: http://cds.linear.com/docs/en/datasheet/6700123fg.pdf; ComponentLink3Description: Package Specification; ComponentLink3URL: http://cds.linear.com/docs/en/packaging/SOT_6_05-08-1636.pdf
footprint LT-S6_N (SOT23, 6-Leads, Body 2.9x1.63mm, Pitch 0.95mm, IPC Medium Density)
footprint LT-S6_L (SOT23, 6-Leads, Body 2.9x1.63mm, Pitch 0.95mm, IPC High Density)
footprint LT-S6_M (SOT23, 6-Leads, Body 2.9x1.63mm, Pitch 0.95mm, IPC Low Density)
pins: 1 OUTA (out), 2 GND (power), 3 -INA (in), 4 -INB (in), 5 VS (power), 6 OUTB (out)

## LT6700CS6-2#TRPBF
designator U?
Micropower, Low Voltage, Comparator with 400 mV Reference, 2 Channels, 1.4 to 18 V, 0 to +70 degC, 6-pin Plastic TSOT-23 (S6), Tape and Reel; Generic Part Number: LT6700-2; Manufacturer: Linear Technology; PartNumber: LT6700CS6-2#TRPBF; Channels (#): 2; Prop Delay (us): 18; Supply Current (uA) Guaranteed: 10; Supply Current (uA) Typical: 5.7; Vos (mV) Typical: 6; Vs Min (V): 1.4; DatasheetVersion: Rev G; PackageReference: S6; PackageDescription: 6-Pin Plastic TSOT-23, Body 2.9 x 1.63 mm, Pitch 0.95 mm; Supplier 1: Digi-Key; Supplier Part Number 1: LT6700CS6-2#TRPBF-ND; Features: Comparator, Reference, Over-the-Top Inputs; RoHS: Y; Supply Voltage Range: 1.4 to 18 V; Vs Max (V): 18; Mounting Technology: Surface Mount; Code_JEDEC: MO-193; ComponentLink1Description: Manufacturer URL; ComponentLink1URL: http://www.linear.com/; ComponentLink2Description: Datasheet; ComponentLink2URL: http://cds.linear.com/docs/en/datasheet/6700123fg.pdf; ComponentLink3Description: Package Specification; ComponentLink3URL: http://cds.linear.com/docs/en/packaging/SOT_6_05-08-1636.pdf
footprint LT-S6_N (SOT23, 6-Leads, Body 2.9x1.63mm, Pitch 0.95mm, IPC Medium Density)
footprint LT-S6_L (SOT23, 6-Leads, Body 2.9x1.63mm, Pitch 0.95mm, IPC High Density)
footprint LT-S6_M (SOT23, 6-Leads, Body 2.9x1.63mm, Pitch 0.95mm, IPC Low Density)
pins: 1 OUTA (out), 2 GND (power), 3 -INA (in), 4 -INB (in), 5 VS (power), 6 OUTB (out)

## LT6700CS6-3
designator U?
Micropower, Low Voltage, Comparator with 400 mV Reference, 2 Channels, 1.4 to 18 V, 0 to +70 degC, 6-pin Plastic TSOT-23 (S6); Generic Part Number: LT6700-3; Manufacturer: Linear Technology; PartNumber: LT6700CS6-3; Channels (#): 2; Prop Delay (us): 18; Supply Current (uA) Guaranteed: 10; Supply Current (uA) Typical: 5.7; Vos (mV) Typical: 6; Vs Min (V): 1.4; DatasheetVersion: Rev G; PackageReference: S6; PackageDescription: 6-Pin Plastic TSOT-23, Body 2.9 x 1.63 mm, Pitch 0.95 mm; Features: Comparator, Reference, Over-the-Top Inputs; RoHS: N; Supply Voltage Range: 1.4 to 18 V; Vs Max (V): 18; Mounting Technology: Surface Mount; Code_JEDEC: MO-193; ComponentLink1Description: Manufacturer URL; ComponentLink1URL: http://www.linear.com/; ComponentLink2Description: Datasheet; ComponentLink2URL: http://cds.linear.com/docs/en/datasheet/6700123fg.pdf; ComponentLink3Description: Package Specification; ComponentLink3URL: http://cds.linear.com/docs/en/packaging/SOT_6_05-08-1636.pdf
footprint LT-S6_N (SOT23, 6-Leads, Body 2.9x1.63mm, Pitch 0.95mm, IPC Medium Density)
footprint LT-S6_L (SOT23, 6-Leads, Body 2.9x1.63mm, Pitch 0.95mm, IPC High Density)
footprint LT-S6_M (SOT23, 6-Leads, Body 2.9x1.63mm, Pitch 0.95mm, IPC Low Density)
pins: 1 OUTA (out), 2 GND (power), 3 +INA (in), 4 +INB (in), 5 VS (power), 6 OUTB (out)

## LT6700CS6-3#PBF
designator U?
Micropower, Low Voltage, Comparator with 400 mV Reference, 2 Channels, 1.4 to 18 V, 0 to +70 degC, 6-pin Plastic TSOT-23 (S6); Generic Part Number: LT6700-3; Manufacturer: Linear Technology; PartNumber: LT6700CS6-3#PBF; Channels (#): 2; Prop Delay (us): 18; Supply Current (uA) Guaranteed: 10; Supply Current (uA) Typical: 5.7; Vos (mV) Typical: 6; Vs Min (V): 1.4; DatasheetVersion: Rev G; PackageReference: S6; PackageDescription: 6-Pin Plastic TSOT-23, Body 2.9 x 1.63 mm, Pitch 0.95 mm; Supplier 1: Newark; Supplier Part Number 1: 31T1425; Supplier 2: Newark; Supplier Part Number 2: 69W6156; Features: Comparator, Reference, Over-the-Top Inputs; RoHS: Y; Supply Voltage Range: 1.4 to 18 V; Vs Max (V): 18; Mounting Technology: Surface Mount; Code_JEDEC: MO-193; ComponentLink1Description: Manufacturer URL; ComponentLink1URL: http://www.linear.com/; ComponentLink2Description: Datasheet; ComponentLink2URL: http://cds.linear.com/docs/en/datasheet/6700123fg.pdf; ComponentLink3Description: Package Specification; ComponentLink3URL: http://cds.linear.com/docs/en/packaging/SOT_6_05-08-1636.pdf
footprint LT-S6_N (SOT23, 6-Leads, Body 2.9x1.63mm, Pitch 0.95mm, IPC Medium Density)
footprint LT-S6_L (SOT23, 6-Leads, Body 2.9x1.63mm, Pitch 0.95mm, IPC High Density)
footprint LT-S6_M (SOT23, 6-Leads, Body 2.9x1.63mm, Pitch 0.95mm, IPC Low Density)
pins: 1 OUTA (out), 2 GND (power), 3 +INA (in), 4 +INB (in), 5 VS (power), 6 OUTB (out)

## LT6700CS6-3#TR
designator U?
Micropower, Low Voltage, Comparator with 400 mV Reference, 2 Channels, 1.4 to 18 V, 0 to +70 degC, 6-pin Plastic TSOT-23 (S6), Tape and Reel; Generic Part Number: LT6700-3; Manufacturer: Linear Technology; PartNumber: LT6700CS6-3#TR; Channels (#): 2; Prop Delay (us): 18; Supply Current (uA) Guaranteed: 10; Supply Current (uA) Typical: 5.7; Vos (mV) Typical: 6; Vs Min (V): 1.4; DatasheetVersion: Rev G; PackageReference: S6; PackageDescription: 6-Pin Plastic TSOT-23, Body 2.9 x 1.63 mm, Pitch 0.95 mm; Supplier 1: Digi-Key; Supplier Part Number 1: LT6700CS6-3#TR-ND; Features: Comparator, Reference, Over-the-Top Inputs; RoHS: N; Supply Voltage Range: 1.4 to 18 V; Vs Max (V): 18; Mounting Technology: Surface Mount; Code_JEDEC: MO-193; ComponentLink1Description: Manufacturer URL; ComponentLink1URL: http://www.linear.com/; ComponentLink2Description: Datasheet; ComponentLink2URL: http://cds.linear.com/docs/en/datasheet/6700123fg.pdf; ComponentLink3Description: Package Specification; ComponentLink3URL: http://cds.linear.com/docs/en/packaging/SOT_6_05-08-1636.pdf
footprint LT-S6_N (SOT23, 6-Leads, Body 2.9x1.63mm, Pitch 0.95mm, IPC Medium Density)
footprint LT-S6_L (SOT23, 6-Leads, Body 2.9x1.63mm, Pitch 0.95mm, IPC High Density)
footprint LT-S6_M (SOT23, 6-Leads, Body 2.9x1.63mm, Pitch 0.95mm, IPC Low Density)
pins: 1 OUTA (out), 2 GND (power), 3 +INA (in), 4 +INB (in), 5 VS (power), 6 OUTB (out)

## LT6700CS6-3#TRM
designator U?
Micropower, Low Voltage, Comparator with 400 mV Reference, 2 Channels, 1.4 to 18 V, 0 to +70 degC, 6-pin Plastic TSOT-23 (S6), Mini Tape and Reel; Generic Part Number: LT6700-3; Manufacturer: Linear Technology; PartNumber: LT6700CS6-3#TRM; Channels (#): 2; Prop Delay (us): 18; Supply Current (uA) Guaranteed: 10; Supply Current (uA) Typical: 5.7; Vos (mV) Typical: 6; Vs Min (V): 1.4; DatasheetVersion: Rev G; PackageReference: S6; PackageDescription: 6-Pin Plastic TSOT-23, Body 2.9 x 1.63 mm, Pitch 0.95 mm; Supplier 1: Digi-Key; Supplier Part Number 1: LT6700CS6-3#TRMTR-ND; Supplier 2: Digi-Key; Supplier Part Number 2: LT6700CS6-3#TRMCT-ND; Features: Comparator, Reference, Over-the-Top Inputs; RoHS: N; Supply Voltage Range: 1.4 to 18 V; Vs Max (V): 18; Mounting Technology: Surface Mount; Code_JEDEC: MO-193; ComponentLink1Description: Manufacturer URL; ComponentLink1URL: http://www.linear.com/; ComponentLink2Description: Datasheet; ComponentLink2URL: http://cds.linear.com/docs/en/datasheet/6700123fg.pdf; ComponentLink3Description: Package Specification; ComponentLink3URL: http://cds.linear.com/docs/en/packaging/SOT_6_05-08-1636.pdf
footprint LT-S6_N (SOT23, 6-Leads, Body 2.9x1.63mm, Pitch 0.95mm, IPC Medium Density)
footprint LT-S6_L (SOT23, 6-Leads, Body 2.9x1.63mm, Pitch 0.95mm, IPC High Density)
footprint LT-S6_M (SOT23, 6-Leads, Body 2.9x1.63mm, Pitch 0.95mm, IPC Low Density)
pins: 1 OUTA (out), 2 GND (power), 3 +INA (in), 4 +INB (in), 5 VS (power), 6 OUTB (out)

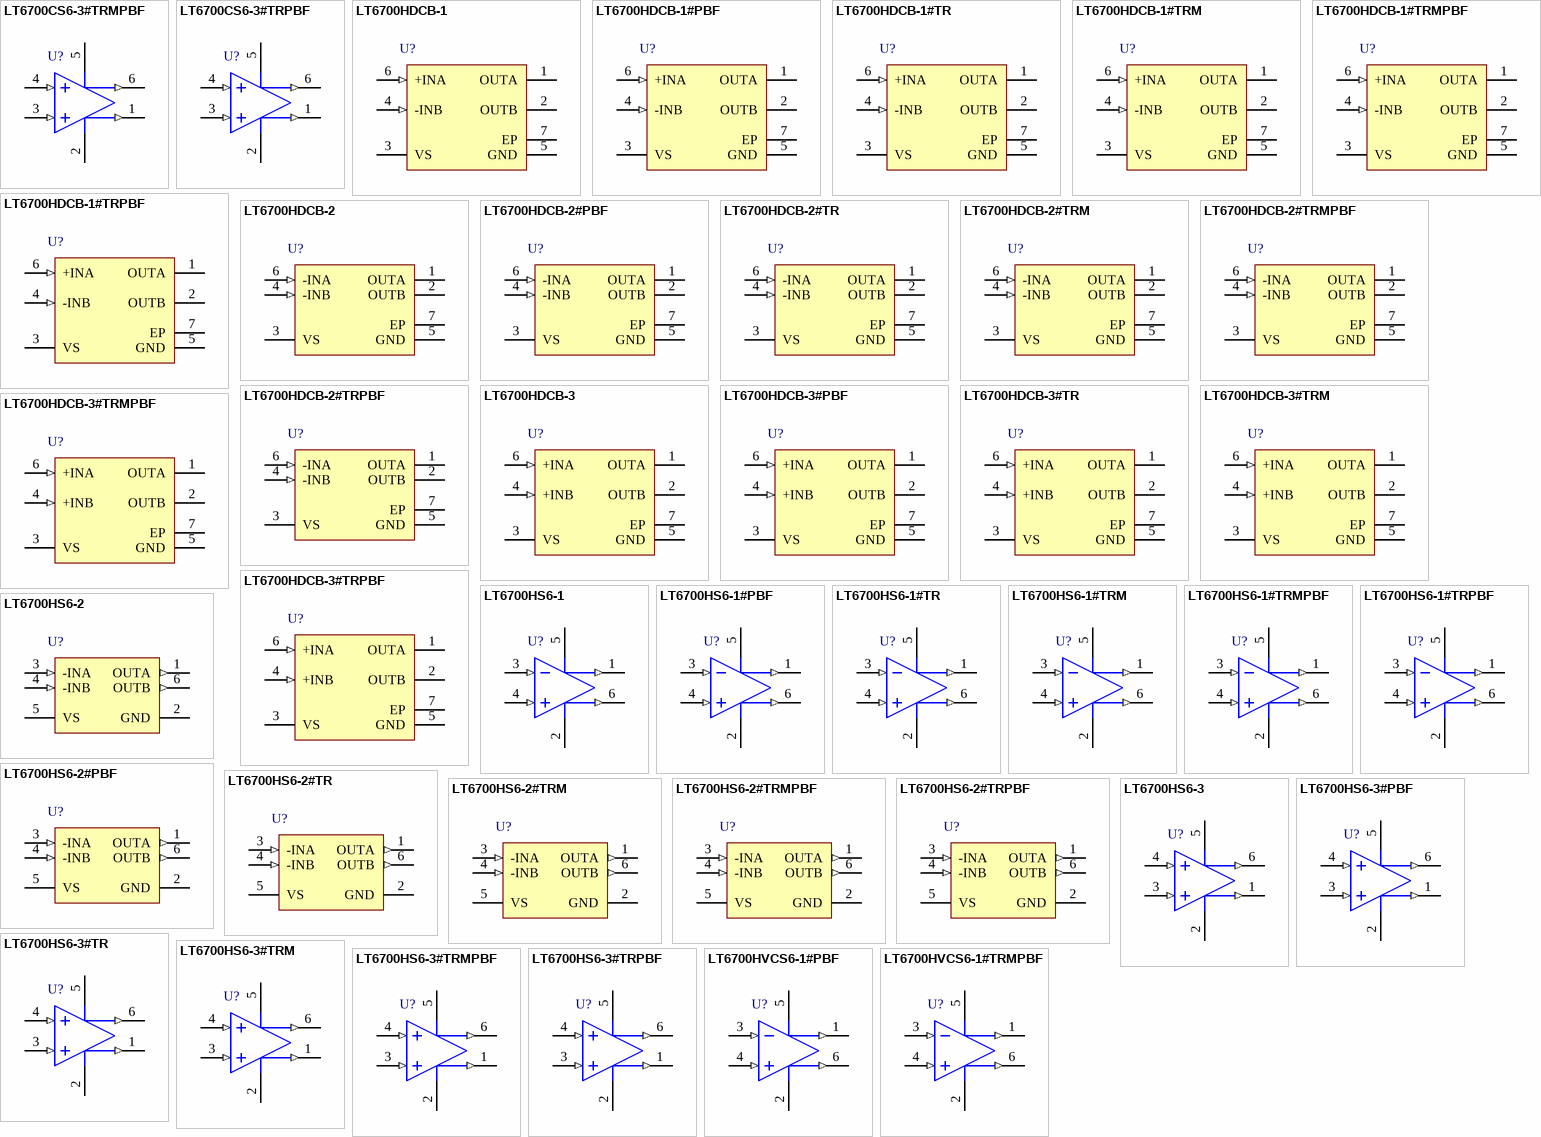
[diagram p9: symbols LT6700CS6-3#TRMPBF to LT6700HVCS6-1#TRMPBF]

## LT6700CS6-3#TRMPBF
designator U?
Micropower, Low Voltage, Comparator with 400 mV Reference, 2 Channels, 1.4 to 18 V, 0 to +70 degC, 6-pin Plastic TSOT-23 (S6), Mini Tape and Reel; Generic Part Number: LT6700-3; Manufacturer: Linear Technology; PartNumber: LT6700CS6-3#TRMPBF; Channels (#): 2; Prop Delay (us): 18; Supply Current (uA) Guaranteed: 10; Supply Current (uA) Typical: 5.7; Vos (mV) Typical: 6; Vs Min (V): 1.4; DatasheetVersion: Rev G; PackageReference: S6; PackageDescription: 6-Pin Plastic TSOT-23, Body 2.9 x 1.63 mm, Pitch 0.95 mm; Supplier 1: Digi-Key; Supplier Part Number 1: LT6700CS6-3#TRMPBFTR-ND; Supplier 2: Digi-Key; Supplier Part Number 2: LT6700CS6-3#TRMPBFCT-ND; Supplier 3: Digi-Key; Supplier Part Number 3: LT6700CS6-3#TRMPBFDKR-ND; Supplier 4: Farnell; Supplier Part Number 4: 1663851; Supplier 5: Farnell; Supplier Part Number 5: 1663851RL; Supplier 6: Newark; Supplier Part Number 6: 57M9679; Features: Comparator, Reference, Over-the-Top Inputs; RoHS: Y; Supply Voltage Range: 1.4 to 18 V; Vs Max (V): 18; Mounting Technology: Surface Mount; Code_JEDEC: MO-193; ComponentLink1Description: Manufacturer URL; ComponentLink1URL: http://www.linear.com/; ComponentLink2Description: Datasheet; ComponentLink2URL: http://cds.linear.com/docs/en/datasheet/6700123fg.pdf; ComponentLink3Description: Package Specification; ComponentLink3URL: http://cds.linear.com/docs/en/packaging/SOT_6_05-08-1636.pdf
footprint LT-S6_N (SOT23, 6-Leads, Body 2.9x1.63mm, Pitch 0.95mm, IPC Medium Density)
footprint LT-S6_L (SOT23, 6-Leads, Body 2.9x1.63mm, Pitch 0.95mm, IPC High Density)
footprint LT-S6_M (SOT23, 6-Leads, Body 2.9x1.63mm, Pitch 0.95mm, IPC Low Density)
pins: 1 OUTA (out), 2 GND (power), 3 +INA (in), 4 +INB (in), 5 VS (power), 6 OUTB (out)

## LT6700CS6-3#TRPBF
designator U?
Micropower, Low Voltage, Comparator with 400 mV Reference, 2 Channels, 1.4 to 18 V, 0 to +70 degC, 6-pin Plastic TSOT-23 (S6), Tape and Reel; Generic Part Number: LT6700-3; Manufacturer: Linear Technology; PartNumber: LT6700CS6-3#TRPBF; Channels (#): 2; Prop Delay (us): 18; Supply Current (uA) Guaranteed: 10; Supply Current (uA) Typical: 5.7; Vos (mV) Typical: 6; Vs Min (V): 1.4; DatasheetVersion: Rev G; PackageReference: S6; PackageDescription: 6-Pin Plastic TSOT-23, Body 2.9 x 1.63 mm, Pitch 0.95 mm; Supplier 1: Digi-Key; Supplier Part Number 1: LT6700CS6-3#TRPBF-ND; Supplier 2: Newark; Supplier Part Number 2: 57M9680; Features: Comparator, Reference, Over-the-Top Inputs; RoHS: Y; Supply Voltage Range: 1.4 to 18 V; Vs Max (V): 18; Mounting Technology: Surface Mount; Code_JEDEC: MO-193; ComponentLink1Description: Manufacturer URL; ComponentLink1URL: http://www.linear.com/; ComponentLink2Description: Datasheet; ComponentLink2URL: http://cds.linear.com/docs/en/datasheet/6700123fg.pdf; ComponentLink3Description: Package Specification; ComponentLink3URL: http://cds.linear.com/docs/en/packaging/SOT_6_05-08-1636.pdf
footprint LT-S6_N (SOT23, 6-Leads, Body 2.9x1.63mm, Pitch 0.95mm, IPC Medium Density)
footprint LT-S6_L (SOT23, 6-Leads, Body 2.9x1.63mm, Pitch 0.95mm, IPC High Density)
footprint LT-S6_M (SOT23, 6-Leads, Body 2.9x1.63mm, Pitch 0.95mm, IPC Low Density)
pins: 1 OUTA (out), 2 GND (power), 3 +INA (in), 4 +INB (in), 5 VS (power), 6 OUTB (out)

## LT6700HDCB-1
designator U?
Micropower, Low Voltage, Comparator with 400 mV Reference, 2 Channels, 1.4 to 18 V, -40 to +125 degC, 6-pin Plastic DFN (DCB6); Generic Part Number: LT6700-1; Manufacturer: Linear Technology; PartNumber: LT6700HDCB-1; Channels (#): 2; Prop Delay (us): 18; Supply Current (uA) Guaranteed: 10; Supply Current (uA) Typical: 5.7; Vos (mV) Typical: 6; Vs Min (V): 1.4; DatasheetVersion: Rev G; PackageReference: DCB6; PackageDescription: 6-Pin Plastic DFN, Body 2 × 3 mm, Pitch 1.35 mm; Features: Comparator, Window Comparator, Reference, Over-the-Top Inputs; RoHS: N; Supply Voltage Range: 1.4 to 18 V; Vs Max (V): 18; Mounting Technology: Surface Mount; Code_JEDEC: M0-229; ComponentLink1Description: Manufacturer URL; ComponentLink1URL: http://www.linear.com/; ComponentLink2Description: Datasheet; ComponentLink2URL: http://cds.linear.com/docs/en/datasheet/6700123fg.pdf; ComponentLink3Description: Package Specification; ComponentLink3URL: http://cds.linear.com/docs/en/packaging/(DCB6)%20DFN%2005-08-1715%20Rev%20A.pdf
footprint LT-DCB6_V (SON, 6-Leads, Body 2x3mm, Pitch 0.5mm, Thermal Pad 1.35x1.65mm)
pins: 1 OUTA (oc) "Open-Collector Output of Comparator Section A This pin provides drive for up to 40mA of load current.off state voltage may be as high as 18V (36V for LT6700HV) above GND ,regardless of VS used.", 2 OUTB (oc) "Open-Collector Output of Comparator Section B  This pin provides drive for up to 40mA of load current .off state voltage may be as high as 18V(36V for LT6700HV)above  GND,regardless of VS used.", 3 VS (power) "Comparator Core Supply Voltage. The parts are characterized for operation with 1.4V =< VS =< 18V with respect to GND.", 4 -INB (in) "External Input for Comparator Section B. The voltage on this pin can range from -0.3V to 18V (36V for LT6700HV) with respect to GND regardless of VS used. The input is noninverting for the LT6700-3/LT6700HV-3, and inverting (See Datasheet)", 5 GND (power) "Ground. This pin is also the low side return of the internal 400mV reference", 6 +INA (in) "External Input for Comparator Section A. The voltage on this pin can range from -0.3V to 18V (36V for LT6700HV) with respect to GND regardless of VS used. The input is (See Datasheet)", 7 EP (power)

## LT6700HDCB-1#PBF
designator U?
Micropower, Low Voltage, Comparator with 400 mV Reference, 2 Channels, 1.4 to 18 V, -40 to +125 degC, 6-pin Plastic DFN (DCB6); Generic Part Number: LT6700-1; Manufacturer: Linear Technology; PartNumber: LT6700HDCB-1#PBF; Channels (#): 2; Prop Delay (us): 18; Supply Current (uA) Guaranteed: 10; Supply Current (uA) Typical: 5.7; Vos (mV) Typical: 6; Vs Min (V): 1.4; DatasheetVersion: Rev G; PackageReference: DCB6; PackageDescription: 6-Pin Plastic DFN, Body 2 × 3 mm, Pitch 1.35 mm; Supplier 1: Newark; Supplier Part Number 1: 78T4280; Features: Comparator, Window Comparator, Reference, Over-the-Top Inputs; RoHS: Y; Supply Voltage Range: 1.4 to 18 V; Vs Max (V): 18; Mounting Technology: Surface Mount; Code_JEDEC: M0-229; ComponentLink1Description: Manufacturer URL; ComponentLink1URL: http://www.linear.com/; ComponentLink2Description: Datasheet; ComponentLink2URL: http://cds.linear.com/docs/en/datasheet/6700123fg.pdf; ComponentLink3Description: Package Specification; ComponentLink3URL: http://cds.linear.com/docs/en/packaging/(DCB6)%20DFN%2005-08-1715%20Rev%20A.pdf
footprint LT-DCB6_V (SON, 6-Leads, Body 2x3mm, Pitch 0.5mm, Thermal Pad 1.35x1.65mm)
pins: 1 OUTA (oc) "Open-Collector Output of Comparator Section A This pin provides drive for up to 40mA of load current.off state voltage may be as high as 18V (36V for LT6700HV) above GND ,regardless of VS used.", 2 OUTB (oc) "Open-Collector Output of Comparator Section B  This pin provides drive for up to 40mA of load current .off state voltage may be as high as 18V(36V for LT6700HV)above  GND,regardless of VS used.", 3 VS (power) "Comparator Core Supply Voltage. The parts are characterized for operation with 1.4V =< VS =< 18V with respect to GND.", 4 -INB (in) "External Input for Comparator Section B. The voltage on this pin can range from -0.3V to 18V (36V for LT6700HV) with respect to GND regardless of VS used. The input is noninverting for the LT6700-3/LT6700HV-3, and inverting (See Datasheet)", 5 GND (power) "Ground. This pin is also the low side return of the internal 400mV reference", 6 +INA (in) "External Input for Comparator Section A. The voltage on this pin can range from -0.3V to 18V (36V for LT6700HV) with respect to GND regardless of VS used. The input is (See Datasheet)", 7 EP (power)